# EAGLE library part ESDA6V1-5P6 (library GTA04b7)
TransilTM array for ESD protection
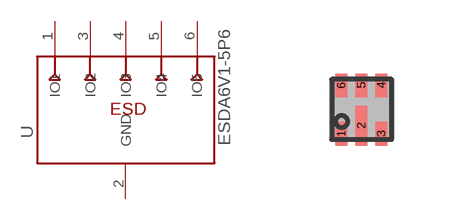
[diagram p16: symbol with the pads of SOT666IP; footprint SOT666IP]

Designator prefix -

## ESDA6V1-5P6  [SOT666IP]
1  IO1
2  GND  pwr
3  IO2
4  IO3
5  IO4
6  IO5

## Footprint SOT666IP (pad centres in mm)
SOT666 with internal pad
smd 0.3 x 0.59: 1 -0.5,-0.605; 3 0.5,-0.605; 4 0.5,0.605; 5 0,0.605; 6 -0.5,0.605
smd 0.3 x 1: 2 0,-0.4